# EAGLE library part ATMEGA324PB-AU (library U-AVR)
ATmega324PB 32 Kbytes FLASH 2 kbytes SRAM 1 kbytes EEPROM 3 USART 2 I2C 2 SPI 8-channel 10 bit ADC
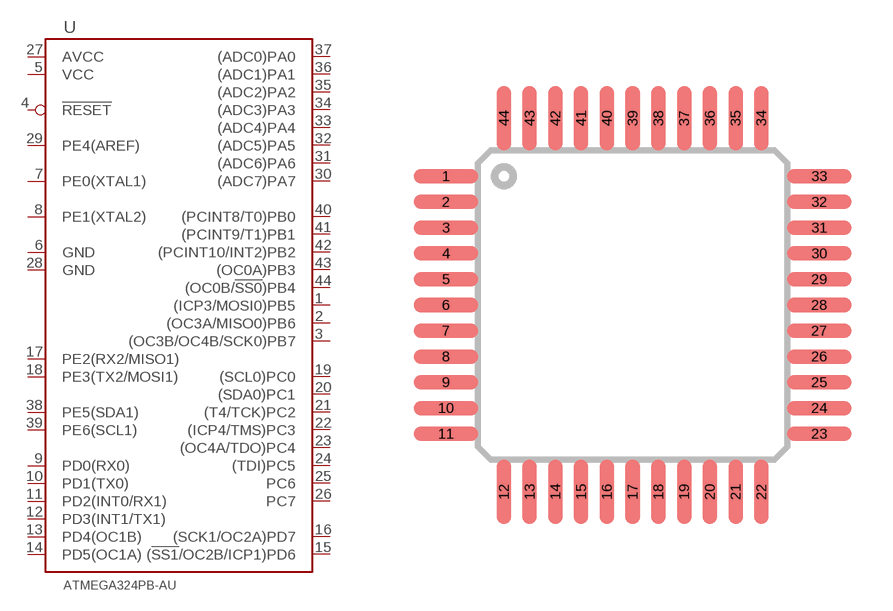
[diagram p16: symbol with the pads of TQFP44; footprint TQFP44]

Designator prefix U

## ATMEGA324PB-AU  [TQFP44]
1  (ICP3/MOSI0)PB5
2  (OC3A/MISO0)PB6
3  (OC3B/OC4B/SCK0)PB7
4  !RESET  in
5  VCC  pwr
6  GND  pwr
7  PE0(XTAL1)
8  PE1(XTAL2)
9  PD0(RX0)
10  PD1(TX0)
11  PD2(INT0/RX1)
12  PD3(INT1/TX1)
13  PD4(OC1B)
14  PD5(OC1A)
15  (!SS1!/OC2B/ICP1)PD6
16  (SCK1/OC2A)PD7
17  PE2(RX2/MISO1)
18  PE3(TX2/MOSI1)
19  (SCL0)PC0
20  (SDA0)PC1
21  (T4/TCK)PC2
22  (ICP4/TMS)PC3
23  (OC4A/TDO)PC4
24  (TDI)PC5
25  PC6
26  PC7
27  AVCC  pas
28  GND  pwr
29  PE4(AREF)  pas
30  (ADC7)PA7
31  (ADC6)PA6
32  (ADC5)PA5
33  (ADC4)PA4
34  (ADC3)PA3
35  (ADC2)PA2
36  (ADC1)PA1
37  (ADC0)PA0
38  PE5(SDA1)
39  PE6(SCL1)
40  (PCINT8/T0)PB0
41  (PCINT9/T1)PB1
42  (PCINT10/INT2)PB2
43  (OC0A)PB3
44  (OC0B/!SS0!)PB4

## Footprint TQFP44 (pad centres in mm)
44-lead Thin Quad Flat Package
smd 2 x 0.45: 1 -5.8,4; 2 -5.8,3.2; 3 -5.8,2.4; 4 -5.8,1.6; 5 -5.8,0.8; 6 -5.8,0; 7 -5.8,-0.8; 8 -5.8,-1.6; 9 -5.8,-2.4; 10 -5.8,-3.2; 11 -5.8,-4; 23 5.8,-4; 24 5.8,-3.2; 25 5.8,-2.4; 26 5.8,-1.6; 27 5.8,-0.8; 28 5.8,0; 29 5.8,0.8; 30 5.8,1.6; 31 5.8,2.4; 32 5.8,3.2; 33 5.8,4
smd 0.45 x 2: 12 -4,-5.8; 13 -3.2,-5.8; 14 -2.4,-5.8; 15 -1.6,-5.8; 16 -0.8,-5.8; 17 0,-5.8; 18 0.8,-5.8; 19 1.6,-5.8; 20 2.4,-5.8; 21 3.2,-5.8; 22 4,-5.8; 34 4,5.8; 35 3.2,5.8; 36 2.4,5.8; 37 1.6,5.8; 38 0.8,5.8; 39 0,5.8; 40 -0.8,5.8; 41 -1.6,5.8; 42 -2.4,5.8; 43 -3.2,5.8; 44 -4,5.8